# Altium footprint library TYPE-C-31-M-12.PcbLib: 1 footprints
Each footprint in its own frame and in the unit in brackets; x right, y up, seen from the top. Pads: shape width x height; smd on the part's side, far side on the other; paste and mask are expansions set on the pad; w line width, h text height; cw(c..) or ccw(c..) is an arc to the next point about the centre after c.
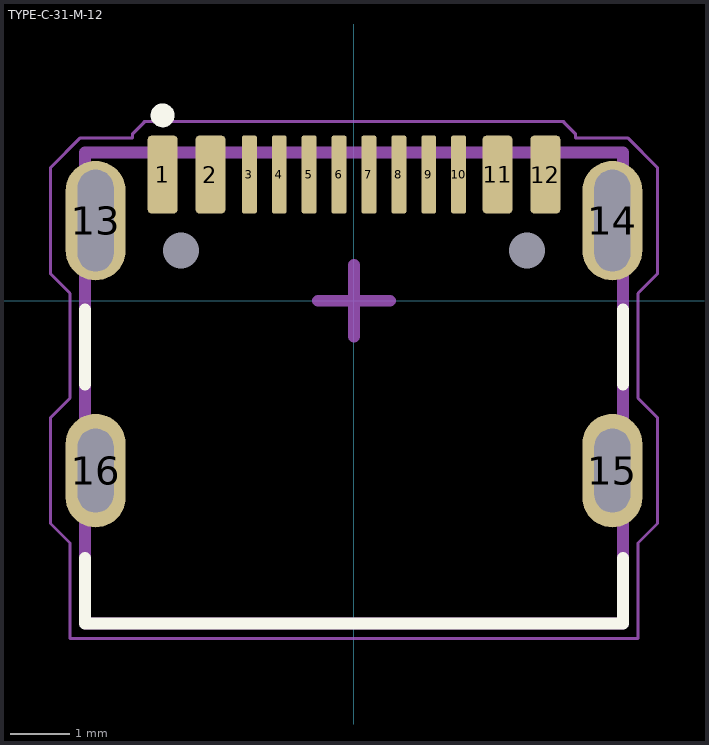
[diagram p0: the footprint, top view; thin cyan lines are the x and y axes]

## TYPE-C-31-M-12 [mm]
height 3.26
pads (18):
  rrect25% 0.5x1.3 smd mask+0.05: 1(-3.2,2.11) 2(-2.4,2.11) 11(2.4,2.11) 12(3.2,2.11)
  rrect25% 0.25x1.3 smd mask+0.05: 3(-1.75,2.11) 4(-1.25,2.11) 5(-0.75,2.11) 6(-0.25,2.11) 7(0.25,2.11) 8(0.75,2.11) 9(1.25,2.11) 10(1.75,2.11)
  oval 1x2 hole 0.6 slot 1.7 at 90 deg mask+0.05: 13(-4.32,1.34) 14(4.32,1.34)
  oval 1x1.9 hole 0.6 slot 1.4 at 90 deg mask+0.05: 15(4.32,-2.84) 16(-4.32,-2.84)
  round 0 hole 0.6 mask+0.05: MH1(-2.89,0.84) MH2(2.89,0.84)
Top Overlay:
  circle w0.2: c-3.2,3.1 r0.1
  lines w0.2: -4.5,-4.3 -4.5,-5.4 4.5,-5.4 4.5,-4.3 ; -4.5,-1.4 -4.5,-0.15 ; 4.5,-1.4 4.5,-0.15
Top Assembly:
  lines w0.2: -0.6,0 0.6,0 ; 0,-0.6 0,0.6 ; -4.5,-5.4 4.5,-5.4 4.5,2.475 -4.5,2.475 -4.5,-5.4
Top Courtyard:
  lines w0.05: -3.508,2.985 -3.7,2.793 -3.7,2.725 -4.575,2.725 -5.075,2.225 -5.075,0.455 -5.075,0.45 -4.75,0.125 -4.75,-1.63 -5.075,-1.955 -5.075,-3.725 -4.75,-4.05 -4.75,-5.65 4.75,-5.65 4.75,-4.05 5.075,-3.725 5.075,-1.955 4.75,-1.63 4.75,0.125 5.075,0.45 5.075,0.455 5.075,2.225 4.575,2.725 3.7,2.725 3.7,2.793 3.508,2.985 ; -3.508,3 -3.2,3 3.508,3
Top Designator:
  text ".Designator" at -7.618,-1.695 h1.52
3D body "TYPE-C-31-M-12.step": height 3.22, standoff -0.98, extent -4.47,-5.41 4.48,2.49